# Altium schematic symbol library ADM6713.SchLib: 1 symbol
Pins are listed as number, name and electrical type; pins without a type are passive.

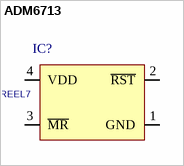
[diagram p0: symbol ADM6713]

## ADM6713
designator IC?, comment ADM6713TAKSZ-REEL7
ID: ADM6713TAKSZ-REEL7; PDF: http://www.analog.com/static/imported-files/data_sheets/ADM6711_6713.pdf; PRICE: 0.89000; BUY_LINK: http://www.digikey.com/product-detail/en/ADM6713TAKSZ-REEL7/ADM6713TAKSZ-REEL7CT-ND/1007346
footprint SC70-4
pins: 1 GND, 2 ~{RST}, 3 ~{MR}, 4 VDD